# Altium schematic symbol library counter_of_area_parts.SchLib: 4 symbols
Pins are listed as number, name and electrical type; pins without a type are passive.

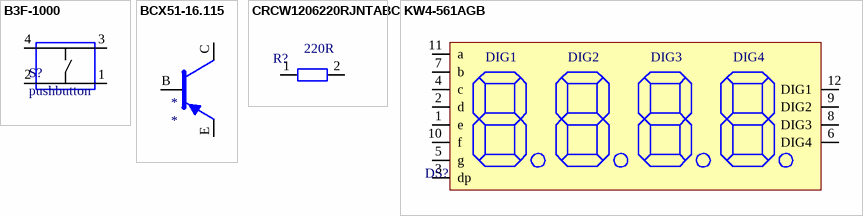
[diagram p0: symbols B3F-1000 to KW4-561AGB]

## B3F-1000
designator S?, comment pushbutton
OMRON ELECTRONIC COMPONENTS         B3F-1000             Tactile Switch, Non Illuminated, 24 V, 50 mA, 0.98 N, Solder, B3F Series; Mechanical Life: 1000000Cycles; Max Voltage Rating (DC): 24V; Throw Configuration: SPST; Operating Force: 0.98N; Illumination Type: Non-Illuminated,Illuminated; Current Rating: 50mA; Switch Travel: 0.25mm; Switch Function: Off-Mom; Contact Resistance: 100mR; Number of Poles: 1; Actuator Type: Standard; Actuator Length: 0.9mm; Supplier 1: TME; Manufacturer: Omron; Manufacturer Part Number: B3F-1000; Stock 1: 6551; Pricing 1: 1=0.1397, 20=0.1319, 100=0.1241, 500=0.1186, 1000=0.11 (USD); Mount: Through Hole; Number of Pins: 4; Weight: 0.008818oz; Contact Plating: Gold; Contact Material: Gold,Silver; Min Operating Temperature: -25°C; Max Operating Temperature: 70°C; Package Quantity: 1500; Packaging: Bag; Voltage Rating (DC): 24V; Termination: PC Pins; Contact Current Rating: 50mA; Orientation: Straight; Max Current Rating: 50mA; Electrical Life: 1000000Cycles; Insulation Resistance: 100MR; Length: 6mm; Height: 3.4mm; Width: 6mm; Depth: 6mm; Lead Free: Lead Free; REACH SVHC: Unknown; ComponentLink1URL: http://www.farnell.com/datasheets/2082873.pdf?src-supplier=Newark; ComponentLink1Description: http://www.farnell.com/datasheets/2082873.pdf?src-supplier=Newark; ComponentLink2URL: http://www.farnell.com/datasheets/2082873.pdf?src-supplier=Element14; ComponentLink2Description: http://www.farnell.com/datasheets/2082873.pdf?src-supplier=Element14; ComponentLink3URL: https://omronfs.omron.com/en_US/ecb/products/pdf/en-b3f.pdf?src-supplier=Digi-Key; ComponentLink3Description: https://omronfs.omron.com/en_US/ecb/products/pdf/en-b3f.pdf?src-supplier=Digi-Key; ComponentLink4URL: https://www.distrelec.biz/Web/Downloads/he/et/B3F_eng_datasheet.pdf?mime=application%2Fpdf&src-supplier=Distrelec; ComponentLink4Description: https://www.distrelec.biz/Web/Downloads/he/et/B3F_eng_datasheet.pdf?mime=application%2Fpdf&src-supplier=Distrelec; ComponentLink5URL: http://www.onlinecomponents.com/productFiles/mf-OM/en-b3f.pdf?src-supplier=Onlinecomponents.com; ComponentLink5Description: http://www.onlinecomponents.com/productFiles/mf-OM/en-b3f.pdf?src-supplier=Onlinecomponents.com; ComponentLink6URL: http://www.mouser.com/ds/2/307/B3F_0811-26083.pdf?src-supplier=Mouser; ComponentLink6Description: http://www.mouser.com/ds/2/307/B3F_0811-26083.pdf?src-supplier=Mouser; ComponentLink7URL: http://www.jameco.com/Jameco/Products/ProdDS/162886.pdf?src-supplier=Jameco; ComponentLink7Description: http://www.jameco.com/Jameco/Products/ProdDS/162886.pdf?src-supplier=Jameco; ComponentLink8URL: https://www.alliedelec.com/m/d/0b4640ec13fd80eb1780b1c20343ca8a.pdf?src-supplier=Allied+Electronics; ComponentLink8Description: https://www.alliedelec.com/m/d/0b4640ec13fd80eb1780b1c20343ca8a.pdf?src-supplier=Allied+Electronics; ComponentLink9URL: https://www.verical.com/server-webapp/html/getDatasheet?partID=388862&src-supplier=Verical; ComponentLink9Description: https://www.verical.com/server-webapp/html/getDatasheet?partID=388862&src-supplier=Verical; ComponentLink10URL: http://www.rapidonline.com/pdf/78-0136.pdf?src-supplier=Rapid+Electronics; ComponentLink10Description: http://www.rapidonline.com/pdf/78-0136.pdf?src-supplier=Rapid+Electronics; Supplier Part Number 1: B3F-1000
footprint TACT switch (6x6mm tact switch)
pins: 1, 2, 3, 4

## BCX51-16.115
designator *
TRANS PNP 400V 0.5A SOT89; Manufacturer: NXP Semiconductors; Manufacturer Part Number: BCX51-16115; Forward Voltage: 1.2V; ComponentLink1URL: https://www.diodes.com/assets/Datasheets/2DA1971.pdf?src-supplier=Digi-Key; ComponentLink1Description: https://www.diodes.com/assets/Datasheets/2DA1971.pdf?src-supplier=Digi-Key; ComponentLink2URL: https://www.verical.com/server-webapp/html/getDatasheet?partID=661243&src-supplier=Verical; ComponentLink2Description: https://www.verical.com/server-webapp/html/getDatasheet?partID=661243&src-supplier=Verical; ComponentLink3URL: http://www.mouser.com/ds/2/115/2DA1971-219201.pdf?src-supplier=Mouser; ComponentLink3Description: http://www.mouser.com/ds/2/115/2DA1971-219201.pdf?src-supplier=Mouser; Supplier 1: Mouser; Stock 1: 13194; Pricing 1: 1=0.4, 10=0.284, 50=0.284, 100=0.131, 1000=0.1, 2000=0.086, 10000=0.078, 25000=0.073, 50000=0.066, 100000=0.063 (USD); Number of Pins: 3; Polarity: PNP; Packaging: Tape and Reel; REACH SVHC: No SVHC; Lead Free: Lead Free; Supplier Part Number 1: 771-BCX51-16115
footprint Model Name (Model Description)
footprint SOT89-150P410X160-3M (SOT89, 3-Leads, Body 4,50x2,45mm, Pitch 1,50mm, Lead Span 4,1mm, IPC Low Density)
pins: B, C, E

## CRCW1206220RJNTABC
designator R?, comment Resistance: 220R  (hidden comment: 1206 resistor)
Resistor: thick film; SMD; 1206; 220O; 0.25W; ±5%; -55÷125°C; Manufacturer: Vishay; Manufacturer Part Number: CRCW1206220RJNTABC; Power Rating: 250mW; Supplier 1: TME; Stock 1: 277400; Pricing 1: 100=0.0314, 500=0.01833, 1000=0.01178, 5000=0.005, 15000=0.00487 (USD); Case/Package: 1206; Tolerance: 5%; Lead Free: Contains Lead; Supplier Part Number 1: CRCW1206220RJNTABC
footprint Resistor 1206
pins: 1, 2

## KW4-561AGB
designator DS?  (value not drawn)
7 segment, 4 digit display; Manufacturer: Lucky Light; Manufacturer Part Number: KW4-561AGB; Supplier 1: TME; Stock 1: 641; Supplier Part Number 1: KW4-561AGB
footprint 7segment4digits
pins: 1 e, 2 d, 3 dp, 4 c, 5 g, 6 DIG4, 7 b, 8 DIG3, 9 DIG2, 10 f, 11 a, 12 DIG1